# Altium schematic symbol library BHK_Sch_IC.SchLib: 1 symbol
Pins are listed as number, name and electrical type; pins without a type are passive.

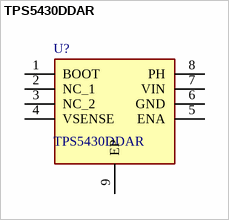
[diagram p0: symbol TPS5430DDAR]

## TPS5430DDAR
designator U?
Texas Instruments, TPS5430DDAR Step-Down Switching Regulator 3A Adjustable, 1.22  31 V, 8-Pin SOIC; Geometry.Height: 1.7mm; BHK_Group: IC; BHK_NC: No; Manufacturer_Name: Texas Instruments; Manufacturer_Part_Number: TPS5430DDAR; Mouser Part Number: 595-TPS5430DDAR; Mouser Price/Stock: https://www.mouser.co.uk/ProductDetail/Texas-Instruments/TPS5430DDAR?qs=zwk82MlA57ZJdOTovH1aYA%3D%3D; Arrow Part Number: TPS5430DDAR; Arrow Price/Stock: https://www.arrow.com/en/products/tps5430ddar/texas-instruments?region=nac; Datasheet Link: http://www.ti.com/lit/gpn/tps5430; BHK_SUB_Group: Regulator; BHK_Name: TPS5430DDAR
footprint SOIC8E
pins: 1 BOOT, 2 NC_1, 3 NC_2, 4 VSENSE, 5 ENA, 6 GND, 7 VIN, 8 PH, 9 EP